# Altium footprint library KN2CLib.PcbLib: 124 footprints (part 6 of 8)
Each footprint in its own frame and in the unit in brackets; x right, y up, seen from the top. Pads: shape width x height; smd on the part's side, far side on the other; paste and mask are expansions set on the pad; w line width, h text height; cw(c..) or ccw(c..) is an arc to the next point about the centre after c.
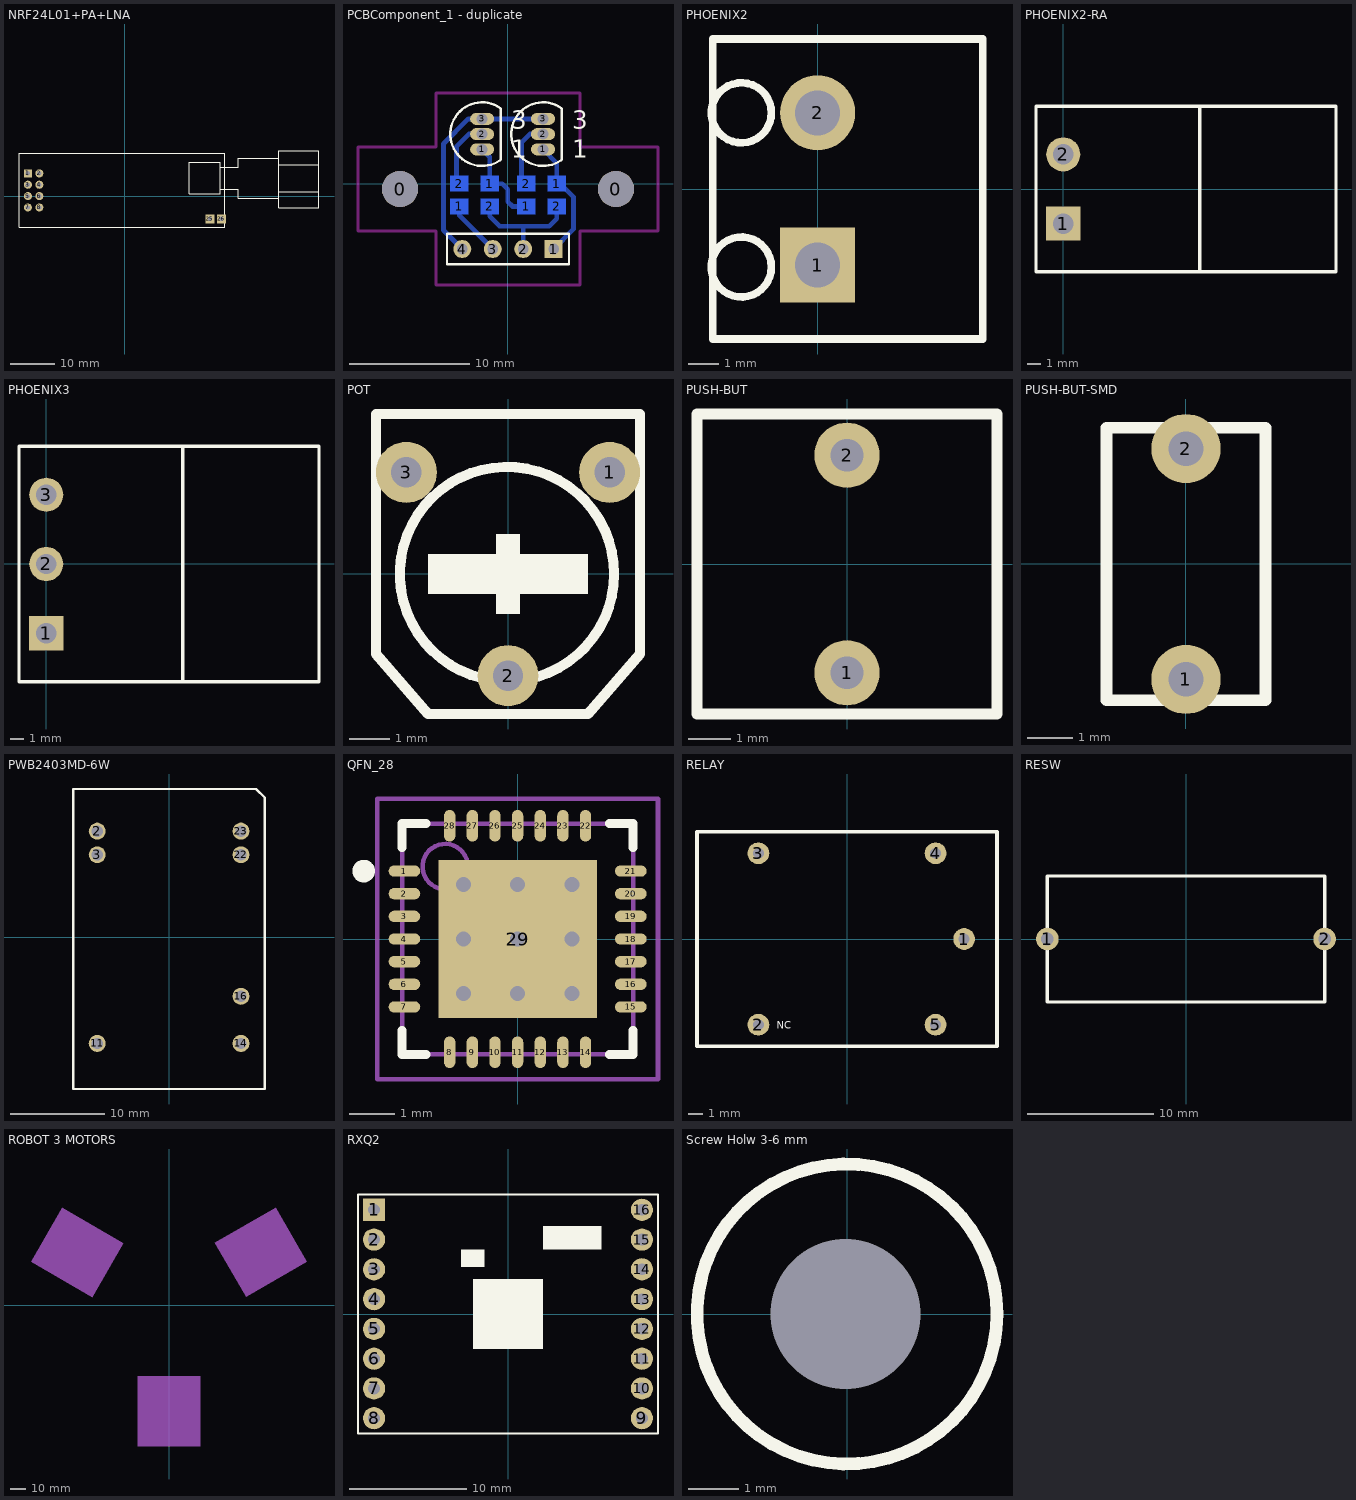
[diagram p5: the footprints below, top view; thin cyan lines are the x and y axes]

## NRF24L01+PA+LNA [mm]
pads (10):
  rect 1.8x1.8 hole 1: 1(-21.59,5.08)
  round 1.8 hole 1: 2(-19.05,5.08) 3(-21.59,2.54) 4(-19.05,2.54) 5(-21.59,0) 6(-19.05,0) 7(-21.59,-2.54) 8(-19.05,-2.54)
  rect 2x2 hole 1: 25(19.05,-5.08) 26(21.59,-5.08)
Top Overlay:
  lines w0.254: 21.361,1.524 25.375,1.524 ; 21.412,6.477 25.375,6.477 ; 25.407,6.488 25.407,8.488 34.407,8.488 34.407,-0.512 25.407,-0.512 ; 34.341,8.484 34.392,8.484 34.392,10.16 43.409,10.16 43.409,-2.616 34.417,-2.616 ; 34.392,-2.616 34.392,-0.152 ; 34.407,0.988 43.407,0.988 43.407,6.988 34.407,6.988 ; 25.407,-0.512 25.407,1.488 25.407,-0.512 ; -23.59,-6.98 22.41,-6.98 22.41,9.52 -23.59,9.52 -23.59,-6.98 ; 14.41,0.52 14.41,7.52 21.41,7.52 21.41,0.52 14.41,0.52

## PCBComponent_1 [mm]

## PCBComponent_1 - duplicate [mm]
pads (20):
  round 3 hole 3: 0(-9,-0.421) 0(9,-0.421)
  rect 1.5x1.3 smd far side: 1(-4.064,-1.879) 1(-1.524,0.021) 1(1.524,-1.879) 1(4.064,0.021) 2(-4.064,0.021) 2(-1.524,-1.879) 2(1.524,0.021) 2(4.064,-1.879)
  oval 2x1 hole 0.9: 1(-2.159,2.881) 1(2.921,2.881) 2(-2.159,4.151) 2(2.921,4.151) 3(-2.159,5.421) 3(2.921,5.421)
  rect 1.5x1.5 hole 0.9: 1(3.81,-5.421)
  round 1.5 hole 0.9: 2(1.27,-5.421) 3(-1.27,-5.421) 4(-3.81,-5.421)
Bottom Layer:
  lines w0.4: -4.064,-1.879 -4.064,-2.627 -1.27,-5.421 ; -3.81,-5.421 -5.375,-3.856 -5.375,3.354 -3.308,5.421 -2.159,5.421 2.921,5.421 ; -3.81,0.021 -3.937,0.148 -4.3,0.511 -4.3,3.104 -3.253,4.151 -2.159,4.151 ; -2.159,2.881 -1.524,2.246 -1.524,0.021 -0.492,0.021 -0.025,-0.446 -0.025,-1.471 0.383,-1.879 1.524,-1.879 ; -1.524,-1.879 -1.524,-2.697 -0.7,-3.521 1.3,-3.521 ; 1.27,-5.421 1.27,-3.551 1.3,-3.521 ; 1.524,0.021 1.12,0.425 1.12,3.449 1.822,4.151 2.921,4.151 ; 2.921,2.881 4.064,1.738 4.064,0.021 4.358,0.021 5.45,-1.071 5.45,-3.781 3.81,-5.421 ; 4.064,-1.879 4.064,-2.882 3.425,-3.521 1.3,-3.521
Top Overlay:
  lines w0.2: -0.639,1.98 cw(c-2.159,4.151) -0.639,6.322 ; -0.609,2.051 -0.609,6.251 ; 4.441,1.98 cw(c2.921,4.151) 4.441,6.322 ; 4.471,2.051 4.471,6.251 ; -5.08,-6.691 5.08,-6.691 5.08,-4.151 -5.08,-4.151 -5.08,-6.691
  text "1" at 5.342,2.172 h1.5
  text "3" at 5.342,4.618 h1.5
  text "1" at 0.262,2.172 h1.5
  text "3" at 0.262,4.618 h1.5
Keep-Out Layer:
  lines w0.254: -12.5,-3.921 -6,-3.921 -6,-8.421 6,-8.421 6,-3.921 12.5,-3.921 12.5,3.079 6,3.079 6,7.579 -6,7.579 -6,3.079 -12.5,3.079 -12.5,-3.921

## PHOENIX2 [mm]
pads (2):
  rect 2.5x2.5 hole 1.5: 1(0,-2.54)
  round 2.5 hole 1.5: 2(0,2.54)
Top Overlay:
  circle w0.254: c-2.54,2.54 r1
  circle w0.254: c-2.54,-2.6 r1
  lines w0.254: -3.5,-5 -3.5,5 5.5,5 5.5,-5 -3.5,-5
3D body: height 8.6, standoff 0, extent -3.5,-5.013 5.475,4.975

## PHOENIX2-RA [mm]
pads (2):
  rect 2.5x2.5 hole 1.5: 1(0,-2.54)
  round 2.5 hole 1.5: 2(0,2.54)
Top Overlay:
  lines w0.254: 10,-6.08 10,6.08 ; -2,-6.08 20,-6.08 20,6.08 -2,6.08 -2,-6.08
3D body: height 8.6, standoff 0, extent -1.981,-6.071 10.008,6.096
3D body: height 15, standoff 0, extent 10.008,-6.045 19.964,6.096

## PHOENIX3 [mm]
pads (3):
  rect 2.5x2.5 hole 1.5: 1(0,-5.08)
  round 2.5 hole 1.5: 2(0,0) 3(0,5.08)
Top Overlay:
  lines w0.254: 10,-8.62 10,8.62 ; -2,-8.62 -2,8.62 20,8.62 20,-8.62 -2,-8.62
3D body: height 15, standoff 0, extent 10.008,-8.585 19.964,8.611
3D body: height 8.6, standoff 0, extent -1.981,-8.611 10.008,8.611

## POT [mil]
pads (3):
  round 60 hole 30: 1(100,100) 2(0,-100) 3(-100,100)
Top Overlay:
  circle w10: c-1,0 r105.42
  rectangle: -11.81,-39.37 11.81,39.37
  rectangle: -78.74,-19.68 78.74,19.68
  lines w10: -129.92,-78.74 -129.92,157.48 129.92,157.48 129.92,-78.74 78.74,-137.8 -78.74,-137.8 -129.92,-78.74
3D body: height 157.48, standoff 0, extent -134.84,-136.81 129.92,157.48

## PUSH-BUT [mil]
pads (2):
  round 60 hole 30: 1(0,-100) 2(0,100)
Top Overlay:
  lines w10: -137.8,-137.8 -137.8,137.8 137.8,137.8 137.8,-137.8 -137.8,-137.8
3D body: height 157.48, standoff 0, extent -138.78,-138.78 138.78,138.78

## PUSH-BUT-SMD [mil]
pads (2):
  round 60 hole 30: 1(0,-100) 2(0,100)
Top Overlay:
  lines w10: -68.9,-118.11 68.9,-118.11 68.9,118.11 -68.9,118.11 -68.9,-118.11
3D body: height 157.48, standoff 0, extent -69,-118 68,117

## PWB2403MD-6W [mm]
pads (7):
  round 1.8 hole 1.2: 2(-7.62,11.25) 3(-7.62,8.75) 11(-7.62,-11.25) 14(7.62,-11.25) 16(7.62,-6.25) 22(7.62,8.75) 23(7.62,11.25)
Top Overlay:
  lines w0.254: -10.16,-16.08 10.14,-16.08 10.14,14.803 9.223,15.72 -10.16,15.72 -10.16,-16.08
3D body: height 4, standoff 0, extent -10.15,-15.975 10.1,15.625

## QFN_28 [mm] "QFN, 28-Leads, Body 5.1x5.1mm (max), Pitch 0.50mm, IPC Medium Density"
height 0.8
pads (29):
  oval 0.7x0.25 smd: 1(-2.5,1.5) 2(-2.5,1) 3(-2.5,0.5) 4(-2.5,0) 5(-2.5,-0.5) 6(-2.5,-1) 7(-2.5,-1.5) 15(2.5,-1.5) 16(2.5,-1) 17(2.5,-0.5) 18(2.5,0) 19(2.5,0.5) 20(2.5,1) 21(2.5,1.5)
  oval 0.25x0.7 smd: 8(-1.5,-2.5) 9(-1,-2.5) 10(-0.5,-2.5) 11(0,-2.5) 12(0.5,-2.5) 13(1,-2.5) 14(1.5,-2.5) 22(1.5,2.5) 23(1,2.5) 24(0.5,2.5) 25(0,2.5) 26(-0.5,2.5) 27(-1,2.5) 28(-1.5,2.5)
  rect 3.5x3.5 smd: 29(0,0)
via 1.2,-1.2 diameter 0.66 hole 0.33
via 0,-1.2 diameter 0.66 hole 0.33
via -1.2,-1.2 diameter 0.66 hole 0.33
via 1.2,0 diameter 0.66 hole 0.33
via 0,0 diameter 0.66 hole 0.33
via -1.2,0 diameter 0.66 hole 0.33
via 1.2,1.2 diameter 0.66 hole 0.33
via 0,1.2 diameter 0.66 hole 0.33
via -1.2,1.2 diameter 0.66 hole 0.33
Top Overlay:
  circle w0.25: c-3.4,1.5 r0.125
  lines w0.2: -2.55,-2.025 -2.55,-2.55 -2.025,-2.55 ; -2.55,2.025 -2.55,2.55 -2.025,2.55 ; 2.025,-2.55 2.55,-2.55 2.55,-2.025 ; 2.025,2.55 2.55,2.55 2.55,2.025
Mechanical 13:
  circle w0.1: c-1.6,1.6 r0.5
  lines w0.1: -2.55,-2.55 2.55,-2.55 2.55,2.55 -2.55,2.55 -2.55,-2.55
Mechanical 15:
  lines w0.1: -0.5,0 0.5,0 ; 0,-0.5 0,0.5 ; -3.1,-3.1 3.1,-3.1 3.1,3.1 -3.1,3.1 -3.1,-3.1
3D body: height 0.8, standoff 0.02, extent -2.55,-2.55 2.55,2.55

## RELAY [mil]
pads (5):
  round 60 hole 30: 1(322.83,0) 2(-244.09,-236.22) 3(-244.09,236.22) 4(244.09,236.22) 5(244.09,-236.22)
Top Overlay:
  lines w10: -413.39,-295.28 -413.39,295.28 413.39,295.28 413.39,-295.28 -413.39,-295.28
  text "NC" at -193.1,-247.3 h19.68
3D body: height 157.48, standoff 0, extent -413.39,-295.28 411.42,293.31

## RESW [mm]
pads (2):
  round 1.8 hole 1: 1(-11,0) 2(11,0)
Top Overlay:
  lines w0.254: -11,-5 -11,5 11,5 11,-5 -11,-5
3D body: height 4, standoff 0, extent -11.025,-5 10.975,4.95

## ROBOT 3 MOTORS [mm]
Drill Guide:
  region: 19.984,-89.925 19.984,-71.925 -20.016,-71.925 -20.016,-89.925
  region: 12.437,-71.913 12.437,-21.913 -12.563,-21.913 -12.563,-71.913
  region: -52.316,53.28 -67.905,62.28 -87.905,27.639 -72.316,18.639
  region: -12.742,22.013 -56.043,47.013 -68.543,25.362 -25.242,0.362
  region: 25.335,0.212 68.636,25.212 56.136,46.863 12.835,21.863
  region: 72.382,18.696 87.971,27.696 67.971,62.337 52.382,53.337
  lines w0.254: -67.149,59.926 ccw(c0,0) 67.092,59.988 ; -67.149,60 67.092,60
Mechanical 1:
  region: 19.984,-89.925 19.984,-44.925 -20.016,-44.925 -20.016,-89.925
  region: -28.934,39.78 -67.905,62.28 -87.905,27.639 -48.934,5.139
  region: 49,5.196 87.971,27.696 67.971,62.337 29,39.837

## RXQ2 [mm]
pads (16):
  rect 1.9x1.9 hole 1: 1(-11.43,8.89)
  round 1.9 hole 1: 2(-11.43,6.35) 3(-11.43,3.81) 4(-11.43,1.27) 5(-11.43,-1.27) 6(-11.43,-3.81) 7(-11.43,-6.35) 8(-11.43,-8.89) 9(11.43,-8.89) 10(11.43,-6.35) 11(11.43,-3.81) 12(11.43,-1.27) 13(11.43,1.27) 14(11.43,3.81) 15(11.43,6.35) 16(11.43,8.89)
Top Overlay:
  rectangle: 3,5.5 8,7.5
  rectangle: -3,-3 3,3
  rectangle: -4,4 -2,5.5
  lines w0.2: -12.8,-10.2 -12.8,10.2 12.8,10.2 12.8,-10.2 -12.8,-10.2
3D body: height 5, standoff 3, extent -12.8,-10.2 12.8,10.2

## Screw Holw 3-6 mm [mm]
pads (1):
  round 0 hole 3: 0(-0.025,0)
Top Overlay:
  circle w0.254: c0,0 r3